# Altium schematic symbol library spacemonochrome-WR_TBL.SchLib: 1696 symbols (part 1 of 28)
Pins are listed as number, name and electrical type; pins without a type are passive.

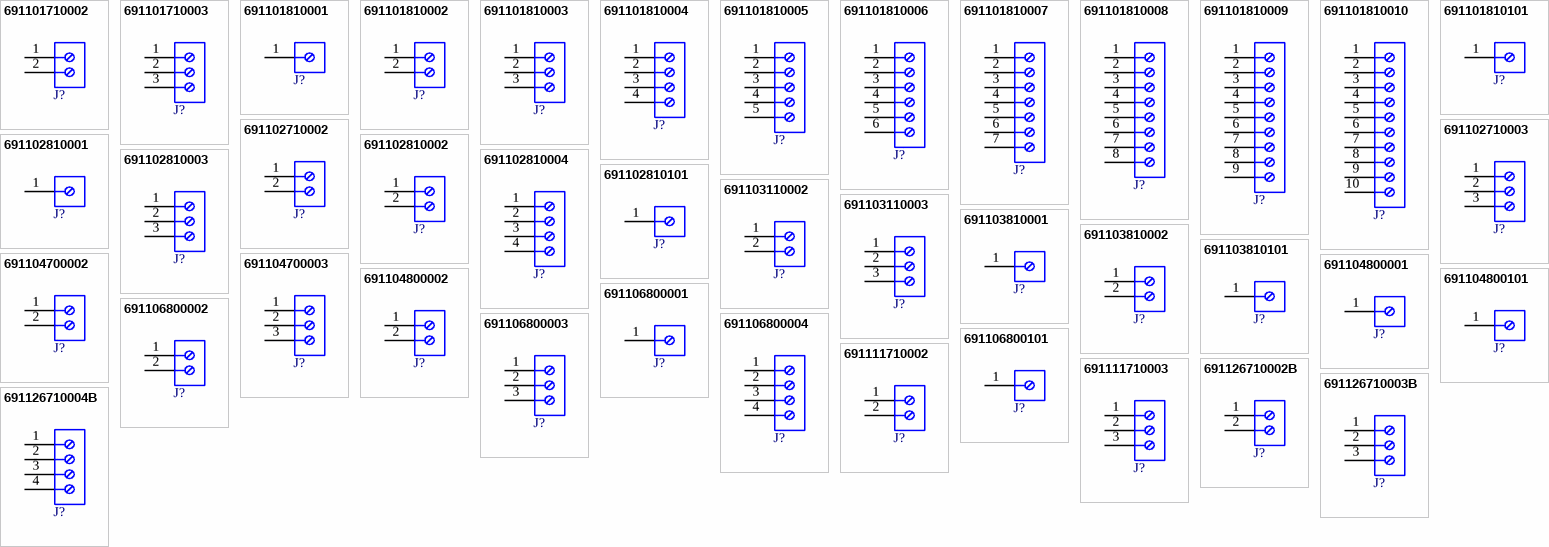
[diagram p0: symbols 691101710002 to 691126710004B]

## 691101710002
designator J?  (value not drawn)
WR-TBL Series 101 Horizontal Entry Modular, THT, pitch 5mm, 2p; Manufacturer: Wurth Elektronik; Modularity: Yes; Rated Current: 16A; Working Voltage: 250V; ComponentLink1Description: Website Link; ComponentLink1URL: https://www.we-online.com/redexpert/article/691101710002?ad; ComponentLink2Description: Datasheet Link; ComponentLink2URL: https://www.we-online.com/redexpert/spec/691101710002?ad; Manufacturer Part Number: 691101710002; Category: Terminal Blocks; Match Code: WR-TBL; Mount: Through Hole; Operating Temperature Max: 105°C; Operating Temperature Min: -40°C; Packaging: Box; Application: Pressure Clamp; Number of Pins: 2; Number of Rows: 1; Orientation: Horizontal; Pitch: 5mm
footprint 691101710002
pins: 1, 2

## 691101710003
designator J?  (value not drawn)
WR-TBL Series 101 Horizontal Entry Modular, THT, pitch 5mm, 3p; Manufacturer: Wurth Elektronik; Modularity: Yes; Rated Current: 16A; Working Voltage: 250V; ComponentLink1Description: Website Link; ComponentLink1URL: https://www.we-online.com/redexpert/article/691101710003?ad; ComponentLink2Description: Datasheet Link; ComponentLink2URL: https://www.we-online.com/redexpert/spec/691101710003?ad; Manufacturer Part Number: 691101710003; Category: Terminal Blocks; Match Code: WR-TBL; Mount: Through Hole; Operating Temperature Max: 105°C; Operating Temperature Min: -40°C; Packaging: Box; Application: Pressure Clamp; Number of Pins: 3; Number of Rows: 1; Orientation: Horizontal; Pitch: 5mm
footprint 691101710003
pins: 1, 2, 3

## 691101810001
designator J?  (value not drawn)
WR-TBL Series 1018 Modular Horizontal Cable Entry, THT, pitch 10mm, 1p; Manufacturer: Wurth Elektronik; Modularity: Yes; Rated Current: 16A; Working Voltage: 250V; ComponentLink1Description: Website Link; ComponentLink1URL: https://www.we-online.com/redexpert/article/691101810001?ad; ComponentLink2Description: Datasheet Link; ComponentLink2URL: https://www.we-online.com/redexpert/spec/691101810001?ad; Manufacturer Part Number: 691101810001; Category: Terminal Blocks; Match Code: WR-TBL; Mount: Through Hole; Operating Temperature Max: 105°C; Operating Temperature Min: -40°C; Packaging: Carton; Application: Wire Protector; Number of Pins: 1; Number of Rows: 1; Orientation: Horizontal Cable Entry; Pitch: 10mm
footprint 691101810001
pins: 1

## 691101810002
designator J?  (value not drawn)
WR-TBL Series 1018 Modular Horizontal Cable Entry, THT, pitch 10mm, 2p; Manufacturer: Wurth Elektronik; Modularity: Yes; Rated Current: 16A; Working Voltage: 250V; ComponentLink1Description: Website Link; ComponentLink1URL: https://www.we-online.com/redexpert/article/691101810002?ad; ComponentLink2Description: Datasheet Link; ComponentLink2URL: https://www.we-online.com/redexpert/spec/691101810002?ad; Manufacturer Part Number: 691101810002; Category: Terminal Blocks; Match Code: WR-TBL; Mount: Through Hole; Operating Temperature Max: 105°C; Operating Temperature Min: -40°C; Packaging: Carton; Application: Wire Protector; Number of Pins: 2; Number of Rows: 1; Orientation: Horizontal Cable Entry; Pitch: 10mm
footprint 691101810002
pins: 1, 2

## 691101810003
designator J?  (value not drawn)
WR-TBL Series 1018 Modular Horizontal Cable Entry, THT, pitch 10mm, 3p; Manufacturer: Wurth Elektronik; Modularity: Yes; Rated Current: 16A; Working Voltage: 250V; ComponentLink1Description: Website Link; ComponentLink1URL: https://www.we-online.com/redexpert/article/691101810003?ad; ComponentLink2Description: Datasheet Link; ComponentLink2URL: https://www.we-online.com/redexpert/spec/691101810003?ad; Manufacturer Part Number: 691101810003; Category: Terminal Blocks; Match Code: WR-TBL; Mount: Through Hole; Operating Temperature Max: 105°C; Operating Temperature Min: -40°C; Packaging: Carton; Application: Wire Protector; Number of Pins: 3; Number of Rows: 1; Orientation: Horizontal Cable Entry; Pitch: 10mm
footprint 691101810003
pins: 1, 2, 3

## 691101810004
designator J?  (value not drawn)
WR-TBL Series 1018 Modular Horizontal Cable Entry, THT, pitch 10mm, 4p; Manufacturer: Wurth Elektronik; Modularity: Yes; Rated Current: 16A; Working Voltage: 250V; ComponentLink1Description: Website Link; ComponentLink1URL: https://www.we-online.com/redexpert/article/691101810004?ad; ComponentLink2Description: Datasheet Link; ComponentLink2URL: https://www.we-online.com/redexpert/spec/691101810004?ad; Manufacturer Part Number: 691101810004; Category: Terminal Blocks; Match Code: WR-TBL; Mount: Through Hole; Operating Temperature Max: 105°C; Operating Temperature Min: -40°C; Packaging: Carton; Application: Wire Protector; Number of Pins: 4; Number of Rows: 1; Orientation: Horizontal Cable Entry; Pitch: 10mm
footprint 691101810004
pins: 1, 2, 3, 4

## 691101810005
designator J?  (value not drawn)
WR-TBL Series 1018 Modular Horizontal Cable Entry, THT, pitch 10mm, 5p; Manufacturer: Wurth Elektronik; Modularity: Yes; Rated Current: 16A; Working Voltage: 250V; ComponentLink1Description: Website Link; ComponentLink1URL: https://www.we-online.com/redexpert/article/691101810005?ad; ComponentLink2Description: Datasheet Link; ComponentLink2URL: https://www.we-online.com/redexpert/spec/691101810005?ad; Manufacturer Part Number: 691101810005; Category: Terminal Blocks; Match Code: WR-TBL; Mount: Through Hole; Operating Temperature Max: 105°C; Operating Temperature Min: -40°C; Packaging: Carton; Application: Wire Protector; Number of Pins: 5; Number of Rows: 1; Orientation: Horizontal Cable Entry; Pitch: 10mm
footprint 691101810005
pins: 1, 2, 3, 4, 5

## 691101810006
designator J?  (value not drawn)
WR-TBL Series 1018 Modular Horizontal Cable Entry, THT, pitch 10mm, 6p; Manufacturer: Wurth Elektronik; Modularity: Yes; Rated Current: 16A; Working Voltage: 250V; ComponentLink1Description: Website Link; ComponentLink1URL: https://www.we-online.com/redexpert/article/691101810006?ad; ComponentLink2Description: Datasheet Link; ComponentLink2URL: https://www.we-online.com/redexpert/spec/691101810006?ad; Manufacturer Part Number: 691101810006; Category: Terminal Blocks; Match Code: WR-TBL; Mount: Through Hole; Operating Temperature Max: 105°C; Operating Temperature Min: -40°C; Packaging: Carton; Application: Wire Protector; Number of Pins: 6; Number of Rows: 1; Orientation: Horizontal Cable Entry; Pitch: 10mm
footprint 691101810006
pins: 1, 2, 3, 4, 5, 6

## 691101810007
designator J?  (value not drawn)
WR-TBL Series 1018 Modular Horizontal Cable Entry, THT, pitch 10mm, 7p; Manufacturer: Wurth Elektronik; Modularity: Yes; Rated Current: 16A; Working Voltage: 250V; ComponentLink1Description: Website Link; ComponentLink1URL: https://www.we-online.com/redexpert/article/691101810007?ad; ComponentLink2Description: Datasheet Link; ComponentLink2URL: https://www.we-online.com/redexpert/spec/691101810007?ad; Manufacturer Part Number: 691101810007; Category: Terminal Blocks; Match Code: WR-TBL; Mount: Through Hole; Operating Temperature Max: 105°C; Operating Temperature Min: -40°C; Packaging: Carton; Application: Wire Protector; Number of Pins: 7; Number of Rows: 1; Orientation: Horizontal Cable Entry; Pitch: 10mm
footprint 691101810007
pins: 1, 2, 3, 4, 5, 6, 7

## 691101810008
designator J?  (value not drawn)
WR-TBL Series 1018 Modular Horizontal Cable Entry, THT, pitch 10mm, 8p; Manufacturer: Wurth Elektronik; Modularity: Yes; Rated Current: 16A; Working Voltage: 250V; ComponentLink1Description: Website Link; ComponentLink1URL: https://www.we-online.com/redexpert/article/691101810008?ad; ComponentLink2Description: Datasheet Link; ComponentLink2URL: https://www.we-online.com/redexpert/spec/691101810008?ad; Manufacturer Part Number: 691101810008; Category: Terminal Blocks; Match Code: WR-TBL; Mount: Through Hole; Operating Temperature Max: 105°C; Operating Temperature Min: -40°C; Packaging: Carton; Application: Wire Protector; Number of Pins: 8; Number of Rows: 1; Orientation: Horizontal Cable Entry; Pitch: 10mm
footprint 691101810008
pins: 1, 2, 3, 4, 5, 6, 7, 8

## 691101810009
designator J?  (value not drawn)
WR-TBL Series 1018 Modular Horizontal Cable Entry, THT, pitch 10mm, 9p; Manufacturer: Wurth Elektronik; Modularity: Yes; Rated Current: 16A; Working Voltage: 250V; ComponentLink1Description: Website Link; ComponentLink1URL: https://www.we-online.com/redexpert/article/691101810009?ad; ComponentLink2Description: Datasheet Link; ComponentLink2URL: https://www.we-online.com/redexpert/spec/691101810009?ad; Manufacturer Part Number: 691101810009; Category: Terminal Blocks; Match Code: WR-TBL; Mount: Through Hole; Operating Temperature Max: 105°C; Operating Temperature Min: -40°C; Packaging: Carton; Application: Wire Protector; Number of Pins: 9; Number of Rows: 1; Orientation: Horizontal Cable Entry; Pitch: 10mm
footprint 691101810009
pins: 1, 2, 3, 4, 5, 6, 7, 8, 9

## 691101810010
designator J?  (value not drawn)
WR-TBL Series 1018 Modular Horizontal Cable Entry, THT, pitch 10mm, 10p; Manufacturer: Wurth Elektronik; Modularity: Yes; Rated Current: 16A; Working Voltage: 250V; ComponentLink1Description: Website Link; ComponentLink1URL: https://www.we-online.com/redexpert/article/691101810010?ad; ComponentLink2Description: Datasheet Link; ComponentLink2URL: https://www.we-online.com/redexpert/spec/691101810010?ad; Manufacturer Part Number: 691101810010; Category: Terminal Blocks; Match Code: WR-TBL; Mount: Through Hole; Operating Temperature Max: 105°C; Operating Temperature Min: -40°C; Packaging: Carton; Application: Wire Protector; Number of Pins: 10; Number of Rows: 1; Orientation: Horizontal Cable Entry; Pitch: 10mm
footprint 691101810010
pins: 1, 2, 3, 4, 5, 6, 7, 8, 9, 10

## 691101810101
designator J?  (value not drawn)
WR-TBL Series 1018 Modular Horizontal Cable Entry, THT, pitch 10mm, 1p; Manufacturer: Wurth Elektronik; Modularity: Yes; Rated Current: 16A; Working Voltage: 250V; ComponentLink1Description: Website Link; ComponentLink1URL: https://www.we-online.com/redexpert/article/691101810101?ad; ComponentLink2Description: Datasheet Link; ComponentLink2URL: https://www.we-online.com/redexpert/spec/691101810101?ad; Manufacturer Part Number: 691101810101; Category: Terminal Blocks; Match Code: WR-TBL; Mount: Through Hole; Operating Temperature Max: 105°C; Operating Temperature Min: -40°C; Packaging: Carton; Application: Wire Protector; Number of Pins: 1; Number of Rows: 1; Orientation: Horizontal Cable Entry; Pitch: 10mm
footprint 691101810101
pins: 1

## 691102710002
designator J?  (value not drawn)
WR-TBL Series 102 Horizontal Entry Modular, THT, pitch 5mm, 2p; Manufacturer: Wurth Elektronik; Modularity: Yes; Rated Current: 15A; Working Voltage: 250V; ComponentLink1Description: Website Link; ComponentLink1URL: https://www.we-online.com/redexpert/article/691102710002?ad; ComponentLink2Description: Datasheet Link; ComponentLink2URL: https://www.we-online.com/redexpert/spec/691102710002?ad; Manufacturer Part Number: 691102710002; Category: Terminal Blocks; Match Code: WR-TBL; Mount: Through Hole; Operating Temperature Max: 105°C; Operating Temperature Min: -40°C; Packaging: Box; Application: Pressure Clamp; Number of Pins: 2; Number of Rows: 1; Orientation: Horizontal; Pitch: 5mm
footprint 691102710002
pins: 1, 2

## 691102710003
designator J?  (value not drawn)
WR-TBL Series 102 Horizontal Entry Modular, THT, pitch 5mm, 3p; Manufacturer: Wurth Elektronik; Modularity: Yes; Rated Current: 15A; Working Voltage: 250V; ComponentLink1Description: Website Link; ComponentLink1URL: https://www.we-online.com/redexpert/article/691102710003?ad; ComponentLink2Description: Datasheet Link; ComponentLink2URL: https://www.we-online.com/redexpert/spec/691102710003?ad; Manufacturer Part Number: 691102710003; Category: Terminal Blocks; Match Code: WR-TBL; Mount: Through Hole; Operating Temperature Max: 105°C; Operating Temperature Min: -40°C; Packaging: Box; Application: Pressure Clamp; Number of Pins: 3; Number of Rows: 1; Orientation: Horizontal; Pitch: 5mm
footprint 691102710003
pins: 1, 2, 3

## 691102810001
designator J?  (value not drawn)
WR-TBL Series 1028 Modular Horizontal Cable Entry, THT, pitch 10mm, 1p; Manufacturer: Wurth Elektronik; Modularity: Yes; Rated Current: 15A; Working Voltage: 300V; ComponentLink1Description: Website Link; ComponentLink1URL: https://www.we-online.com/redexpert/article/691102810001?ad; ComponentLink2Description: Datasheet Link; ComponentLink2URL: https://www.we-online.com/redexpert/spec/691102810001?ad; Manufacturer Part Number: 691102810001; Category: Terminal Blocks; Match Code: WR-TBL; Mount: Through Hole; Operating Temperature Max: 105°C; Operating Temperature Min: -40°C; Packaging: Carton; Application: Wire Protector; Number of Pins: 1; Number of Rows: 1; Orientation: Horizontal Cable Entry; Pitch: 10mm
footprint 691102810001
pins: 1

## 691102810002
designator J?  (value not drawn)
WR-TBL Series 1028 Modular Horizontal Cable Entry, THT, pitch 10mm, 2p; Manufacturer: Wurth Elektronik; Modularity: Yes; Rated Current: 15A; Working Voltage: 300V; ComponentLink1Description: Website Link; ComponentLink1URL: https://www.we-online.com/redexpert/article/691102810002?ad; ComponentLink2Description: Datasheet Link; ComponentLink2URL: https://www.we-online.com/redexpert/spec/691102810002?ad; Manufacturer Part Number: 691102810002; Category: Terminal Blocks; Match Code: WR-TBL; Mount: Through Hole; Operating Temperature Max: 105°C; Operating Temperature Min: -40°C; Packaging: Carton; Application: Wire Protector; Number of Pins: 2; Number of Rows: 1; Orientation: Horizontal Cable Entry; Pitch: 10mm
footprint 691102810002
pins: 1, 2

## 691102810003
designator J?  (value not drawn)
WR-TBL Series 1028 Modular Horizontal Cable Entry, THT, pitch 10mm, 3p; Manufacturer: Wurth Elektronik; Modularity: Yes; Rated Current: 15A; Working Voltage: 300V; ComponentLink1Description: Website Link; ComponentLink1URL: https://www.we-online.com/redexpert/article/691102810003?ad; ComponentLink2Description: Datasheet Link; ComponentLink2URL: https://www.we-online.com/redexpert/spec/691102810003?ad; Manufacturer Part Number: 691102810003; Category: Terminal Blocks; Match Code: WR-TBL; Mount: Through Hole; Operating Temperature Max: 105°C; Operating Temperature Min: -40°C; Packaging: Carton; Application: Wire Protector; Number of Pins: 3; Number of Rows: 1; Orientation: Horizontal Cable Entry; Pitch: 10mm
footprint 691102810003
pins: 1, 2, 3

## 691102810004
designator J?  (value not drawn)
WR-TBL Series 1028 Modular Horizontal Cable Entry, THT, pitch 10mm, 4p; Manufacturer: Wurth Elektronik; Modularity: Yes; Rated Current: 15A; Working Voltage: 300V; ComponentLink1Description: Website Link; ComponentLink1URL: https://www.we-online.com/redexpert/article/691102810004?ad; ComponentLink2Description: Datasheet Link; ComponentLink2URL: https://www.we-online.com/redexpert/spec/691102810004?ad; Manufacturer Part Number: 691102810004; Category: Terminal Blocks; Match Code: WR-TBL; Mount: Through Hole; Operating Temperature Max: 105°C; Operating Temperature Min: -40°C; Packaging: Carton; Application: Wire Protector; Number of Pins: 4; Number of Rows: 1; Orientation: Horizontal Cable Entry; Pitch: 10mm
footprint 691102810004
pins: 1, 2, 3, 4

## 691102810101
designator J?  (value not drawn)
WR-TBL Series 1028 Modular Horizontal Cable Entry, THT, pitch 10mm, 1p; Manufacturer: Wurth Elektronik; Modularity: Yes; Rated Current: 15A; Working Voltage: 300V; ComponentLink1Description: Website Link; ComponentLink1URL: https://www.we-online.com/redexpert/article/691102810101?ad; ComponentLink2Description: Datasheet Link; ComponentLink2URL: https://www.we-online.com/redexpert/spec/691102810101?ad; Manufacturer Part Number: 691102810101; Category: Terminal Blocks; Match Code: WR-TBL; Mount: Through Hole; Operating Temperature Max: 105°C; Operating Temperature Min: -40°C; Packaging: Carton; Application: Wire Protector; Number of Pins: 1; Number of Rows: 1; Orientation: Horizontal Cable Entry; Pitch: 10mm
footprint 691102810101
pins: 1

## 691103110002
designator J?  (value not drawn)
WR-TBL Series 1031 Horizontal Entry Modular, THT, pitch 3.5mm, 2p; Manufacturer: Wurth Elektronik; Modularity: Yes; Rated Current: 10A; Working Voltage: 125V; ComponentLink1Description: Website Link; ComponentLink1URL: https://www.we-online.com/redexpert/article/691103110002?ad; ComponentLink2Description: Datasheet Link; ComponentLink2URL: https://www.we-online.com/redexpert/spec/691103110002?ad; Manufacturer Part Number: 691103110002; Category: Terminal Blocks; Match Code: WR-TBL; Mount: Through Hole; Operating Temperature Max: 105°C; Operating Temperature Min: -40°C; Packaging: Box; Application: Pressure Clamp; Number of Pins: 2; Number of Rows: 1; Orientation: Horizontal; Pitch: 3.5mm
footprint 691103110002
pins: 1, 2

## 691103110003
designator J?  (value not drawn)
WR-TBL Series 1031 Horizontal Entry Modular, THT, pitch 3.5mm, 3p; Manufacturer: Wurth Elektronik; Modularity: Yes; Rated Current: 10A; Working Voltage: 125V; ComponentLink1Description: Website Link; ComponentLink1URL: https://www.we-online.com/redexpert/article/691103110003?ad; ComponentLink2Description: Datasheet Link; ComponentLink2URL: https://www.we-online.com/redexpert/spec/691103110003?ad; Manufacturer Part Number: 691103110003; Category: Terminal Blocks; Match Code: WR-TBL; Mount: Through Hole; Operating Temperature Max: 105°C; Operating Temperature Min: -40°C; Packaging: Box; Application: Pressure Clamp; Number of Pins: 3; Number of Rows: 1; Orientation: Horizontal; Pitch: 3.5mm
footprint 691103110003
pins: 1, 2, 3

## 691103810001
designator J?  (value not drawn)
WR-TBL Series 1038 Horizontal Entry, THT, pitch 10mm, 1p; Manufacturer: Wurth Elektronik; Modularity: Yes; Rated Current: 14A; Working Voltage: 300V; ComponentLink1Description: Website Link; ComponentLink1URL: https://www.we-online.com/redexpert/article/691103810001?ad; ComponentLink2Description: Datasheet Link; ComponentLink2URL: https://www.we-online.com/redexpert/spec/691103810001?ad; Manufacturer Part Number: 691103810001; Category: Terminal Blocks; Match Code: WR-TBL; Mount: Through Hole; Operating Temperature Max: 120°C; Operating Temperature Min: -30°C; Packaging: Box; Application: Pressure Clamp; Number of Pins: 1; Number of Rows: 1; Orientation: Horizontal; Pitch: 10mm
footprint 691103810001
pins: 1

## 691103810002
designator J?  (value not drawn)
WR-TBL Series 1038 Horizontal Entry, THT, pitch 10mm, 2p; Manufacturer: Wurth Elektronik; Modularity: Yes; Rated Current: 14A; Working Voltage: 300V; ComponentLink1Description: Website Link; ComponentLink1URL: https://www.we-online.com/redexpert/article/691103810002?ad; ComponentLink2Description: Datasheet Link; ComponentLink2URL: https://www.we-online.com/redexpert/spec/691103810002?ad; Manufacturer Part Number: 691103810002; Category: Terminal Blocks; Match Code: WR-TBL; Mount: Through Hole; Operating Temperature Max: 120°C; Operating Temperature Min: -30°C; Packaging: Box; Application: Pressure Clamp; Number of Pins: 2; Number of Rows: 1; Orientation: Horizontal; Pitch: 10mm
footprint 691103810002
pins: 1, 2

## 691103810101
designator J?  (value not drawn)
WR-TBL Series 1038 Horizontal Entry, THT, pitch 10mm, 1p; Manufacturer: Wurth Elektronik; Modularity: Yes; Rated Current: 14A; Working Voltage: 300V; ComponentLink1Description: Website Link; ComponentLink1URL: https://www.we-online.com/redexpert/article/691103810101?ad; ComponentLink2Description: Datasheet Link; ComponentLink2URL: https://www.we-online.com/redexpert/spec/691103810101?ad; Manufacturer Part Number: 691103810101; Category: Terminal Blocks; Match Code: WR-TBL; Mount: Through Hole; Operating Temperature Max: 120°C; Operating Temperature Min: -30°C; Packaging: Box; Application: Pressure Clamp; Number of Pins: 1; Number of Rows: 1; Orientation: Horizontal; Pitch: 10mm
footprint 691103810101
pins: 1

## 691104700002
designator J?  (value not drawn)
WR-TBL Series 1047 Vertical Entry Modular, THT, pitch 5mm, 2p; Manufacturer: Wurth Elektronik; Modularity: Yes; Rated Current: 16A; Working Voltage: 250V; ComponentLink1Description: Website Link; ComponentLink1URL: https://www.we-online.com/redexpert/article/691104700002?ad; ComponentLink2Description: Datasheet Link; ComponentLink2URL: https://www.we-online.com/redexpert/spec/691104700002?ad; Manufacturer Part Number: 691104700002; Category: Terminal Blocks; Match Code: WR-TBL; Mount: Through Hole; Operating Temperature Max: 105°C; Operating Temperature Min: -40°C; Packaging: Box; Application: Pressure Clamp; Number of Pins: 2; Number of Rows: 1; Orientation: Vertical; Pitch: 5mm
footprint 691104700002
pins: 1, 2

## 691104700003
designator J?  (value not drawn)
WR-TBL Series 1047 Vertical Entry Modular, THT, pitch 5mm, 3p; Manufacturer: Wurth Elektronik; Modularity: Yes; Rated Current: 16A; Working Voltage: 250V; ComponentLink1Description: Website Link; ComponentLink1URL: https://www.we-online.com/redexpert/article/691104700003?ad; ComponentLink2Description: Datasheet Link; ComponentLink2URL: https://www.we-online.com/redexpert/spec/691104700003?ad; Manufacturer Part Number: 691104700003; Category: Terminal Blocks; Match Code: WR-TBL; Mount: Through Hole; Operating Temperature Max: 105°C; Operating Temperature Min: -40°C; Packaging: Box; Application: Pressure Clamp; Number of Pins: 3; Number of Rows: 1; Orientation: Vertical; Pitch: 5mm
footprint 691104700003
pins: 1, 2, 3

## 691104800001
designator J?  (value not drawn)
WR-TBL Series 1048 Vertical Entry Glow Wire, THT, pitch 10mm, 1p; Manufacturer: Wurth Elektronik; Modularity: Yes; Rated Current: 14A; Working Voltage: 300V; ComponentLink1Description: Website Link; ComponentLink1URL: https://www.we-online.com/redexpert/article/691104800001?ad; ComponentLink2Description: Datasheet Link; ComponentLink2URL: https://www.we-online.com/redexpert/spec/691104800001?ad; Manufacturer Part Number: 691104800001; Category: Terminal Blocks; Match Code: WR-TBL; Mount: Through Hole; Operating Temperature Max: 120°C; Operating Temperature Min: -30°C; Packaging: Box; Application: Pressure Clamp; Number of Pins: 1; Number of Rows: 1; Orientation: Vertical; Pitch: 10mm
footprint 691104800001
pins: 1

## 691104800002
designator J?  (value not drawn)
WR-TBL Series 1048 Vertical Entry Glow Wire, THT, pitch 10mm, 2p; Manufacturer: Wurth Elektronik; Modularity: Yes; Rated Current: 14A; Working Voltage: 300V; ComponentLink1Description: Website Link; ComponentLink1URL: https://www.we-online.com/redexpert/article/691104800002?ad; ComponentLink2Description: Datasheet Link; ComponentLink2URL: https://www.we-online.com/redexpert/spec/691104800002?ad; Manufacturer Part Number: 691104800002; Category: Terminal Blocks; Match Code: WR-TBL; Mount: Through Hole; Operating Temperature Max: 120°C; Operating Temperature Min: -30°C; Packaging: Box; Application: Pressure Clamp; Number of Pins: 2; Number of Rows: 1; Orientation: Vertical; Pitch: 10mm
footprint 691104800002
pins: 1, 2

## 691104800101
designator J?  (value not drawn)
WR-TBL Series 1048 Vertical Entry Glow Wire, THT, pitch 10mm, 1p; Manufacturer: Wurth Elektronik; Modularity: Yes; Rated Current: 14A; Working Voltage: 300V; ComponentLink1Description: Website Link; ComponentLink1URL: https://www.we-online.com/redexpert/article/691104800101?ad; ComponentLink2Description: Datasheet Link; ComponentLink2URL: https://www.we-online.com/redexpert/spec/691104800101?ad; Manufacturer Part Number: 691104800101; Category: Terminal Blocks; Match Code: WR-TBL; Mount: Through Hole; Operating Temperature Max: 120°C; Operating Temperature Min: -30°C; Packaging: Box; Application: Pressure Clamp; Number of Pins: 1; Number of Rows: 1; Orientation: Vertical; Pitch: 10mm
footprint 691104800101
pins: 1

## 691106800001
designator J?  (value not drawn)
WR-TBL Series 1068 Modular Vertical Cable Entry, THT, pitch 10mm, 1p; Manufacturer: Wurth Elektronik; Modularity: Yes; Rated Current: 16A; Working Voltage: 250V; ComponentLink1Description: Website Link; ComponentLink1URL: https://www.we-online.com/redexpert/article/691106800001?ad; ComponentLink2Description: Datasheet Link; ComponentLink2URL: https://www.we-online.com/redexpert/spec/691106800001?ad; Manufacturer Part Number: 691106800001; Category: Terminal Blocks; Match Code: WR-TBL; Mount: Through Hole; Operating Temperature Max: 105°C; Operating Temperature Min: -40°C; Packaging: Carton; Application: Wire Protector; Number of Pins: 1; Number of Rows: 1; Orientation: Vertical Cable Entry; Pitch: 10mm
footprint 691106800001
pins: 1

## 691106800002
designator J?  (value not drawn)
WR-TBL Series 1068 Modular Vertical Cable Entry, THT, pitch 10mm, 2p; Manufacturer: Wurth Elektronik; Modularity: Yes; Rated Current: 16A; Working Voltage: 250V; ComponentLink1Description: Website Link; ComponentLink1URL: https://www.we-online.com/redexpert/article/691106800002?ad; ComponentLink2Description: Datasheet Link; ComponentLink2URL: https://www.we-online.com/redexpert/spec/691106800002?ad; Manufacturer Part Number: 691106800002; Category: Terminal Blocks; Match Code: WR-TBL; Mount: Through Hole; Operating Temperature Max: 105°C; Operating Temperature Min: -40°C; Packaging: Carton; Application: Wire Protector; Number of Pins: 2; Number of Rows: 1; Orientation: Vertical Cable Entry; Pitch: 10mm
footprint 691106800002
pins: 1, 2

## 691106800003
designator J?  (value not drawn)
WR-TBL Series 1068 Modular Vertical Cable Entry, THT, pitch 10mm, 3p; Manufacturer: Wurth Elektronik; Modularity: Yes; Rated Current: 16A; Working Voltage: 250V; ComponentLink1Description: Website Link; ComponentLink1URL: https://www.we-online.com/redexpert/article/691106800003?ad; ComponentLink2Description: Datasheet Link; ComponentLink2URL: https://www.we-online.com/redexpert/spec/691106800003?ad; Manufacturer Part Number: 691106800003; Category: Terminal Blocks; Match Code: WR-TBL; Mount: Through Hole; Operating Temperature Max: 105°C; Operating Temperature Min: -40°C; Packaging: Carton; Application: Wire Protector; Number of Pins: 3; Number of Rows: 1; Orientation: Vertical Cable Entry; Pitch: 10mm
footprint 691106800003
pins: 1, 2, 3

## 691106800004
designator J?  (value not drawn)
WR-TBL Series 1068 Modular Vertical Cable Entry, THT, pitch 10mm, 4p; Manufacturer: Wurth Elektronik; Modularity: Yes; Rated Current: 16A; Working Voltage: 250V; ComponentLink1Description: Website Link; ComponentLink1URL: https://www.we-online.com/redexpert/article/691106800004?ad; ComponentLink2Description: Datasheet Link; ComponentLink2URL: https://www.we-online.com/redexpert/spec/691106800004?ad; Manufacturer Part Number: 691106800004; Category: Terminal Blocks; Match Code: WR-TBL; Mount: Through Hole; Operating Temperature Max: 105°C; Operating Temperature Min: -40°C; Packaging: Carton; Application: Wire Protector; Number of Pins: 4; Number of Rows: 1; Orientation: Vertical Cable Entry; Pitch: 10mm
footprint 691106800004
pins: 1, 2, 3, 4

## 691106800101
designator J?  (value not drawn)
WR-TBL Series 1068 Modular Vertical Cable Entry, THT, pitch 10mm, 1p; Manufacturer: Wurth Elektronik; Modularity: Yes; Rated Current: 16A; Working Voltage: 250V; ComponentLink1Description: Website Link; ComponentLink1URL: https://www.we-online.com/redexpert/article/691106800101?ad; ComponentLink2Description: Datasheet Link; ComponentLink2URL: https://www.we-online.com/redexpert/spec/691106800101?ad; Manufacturer Part Number: 691106800101; Category: Terminal Blocks; Match Code: WR-TBL; Mount: Through Hole; Operating Temperature Max: 105°C; Operating Temperature Min: -40°C; Packaging: Carton; Application: Wire Protector; Number of Pins: 1; Number of Rows: 1; Orientation: Vertical Cable Entry; Pitch: 10mm
footprint 691106800101
pins: 1

## 691111710002
designator J?  (value not drawn)
WR-TBL Series 111 Horizontal Entry Modular, THT, pitch 5mm, 2p; Manufacturer: Wurth Elektronik; Modularity: Yes; Rated Current: 15A; Working Voltage: 250V; ComponentLink1Description: Website Link; ComponentLink1URL: https://www.we-online.com/redexpert/article/691111710002?ad; ComponentLink2Description: Datasheet Link; ComponentLink2URL: https://www.we-online.com/redexpert/spec/691111710002?ad; Manufacturer Part Number: 691111710002; Category: Terminal Blocks; Match Code: WR-TBL; Mount: Through Hole; Operating Temperature Max: 105°C; Operating Temperature Min: -40°C; Packaging: Box; Application: Pressure Clamp; Number of Pins: 2; Number of Rows: 1; Orientation: Horizontal; Pitch: 5mm
footprint 691111710002
pins: 1, 2

## 691111710003
designator J?  (value not drawn)
WR-TBL Series 111 Horizontal Entry Modular, THT, pitch 5mm, 3p; Manufacturer: Wurth Elektronik; Modularity: Yes; Rated Current: 15A; Working Voltage: 250V; ComponentLink1Description: Website Link; ComponentLink1URL: https://www.we-online.com/redexpert/article/691111710003?ad; ComponentLink2Description: Datasheet Link; ComponentLink2URL: https://www.we-online.com/redexpert/spec/691111710003?ad; Manufacturer Part Number: 691111710003; Category: Terminal Blocks; Match Code: WR-TBL; Mount: Through Hole; Operating Temperature Max: 105°C; Operating Temperature Min: -40°C; Packaging: Box; Application: Pressure Clamp; Number of Pins: 3; Number of Rows: 1; Orientation: Horizontal; Pitch: 5mm
footprint 691111710003
pins: 1, 2, 3

## 691126710002B
designator J?  (value not drawn)
WR-TBL Series 126B Horizontal Entry, THT, pitch 5mm, 2p; Manufacturer: Wurth Elektronik; Modularity: Yes; Rated Current: 20A; Working Voltage: 300V; ComponentLink1Description: Website Link; ComponentLink1URL: https://www.we-online.com/redexpert/article/691126710002B?ad; ComponentLink2Description: Datasheet Link; ComponentLink2URL: https://www.we-online.com/redexpert/spec/691126710002B?ad; Manufacturer Part Number: 691126710002B; Category: Terminal Blocks; Match Code: WR-TBL; Mount: Through Hole; Operating Temperature Max: 105°C; Operating Temperature Min: -40°C; Packaging: Box; Application: Pressure Clamp; Number of Pins: 2; Number of Rows: 1; Orientation: Horizontal; Pitch: 5mm
footprint 691126710002B
pins: 1, 2

## 691126710003B
designator J?  (value not drawn)
WR-TBL Series 126B Horizontal Entry, THT, pitch 5mm, 3p; Manufacturer: Wurth Elektronik; Modularity: Yes; Rated Current: 20A; Working Voltage: 300V; ComponentLink1Description: Website Link; ComponentLink1URL: https://www.we-online.com/redexpert/article/691126710003B?ad; ComponentLink2Description: Datasheet Link; ComponentLink2URL: https://www.we-online.com/redexpert/spec/691126710003B?ad; Manufacturer Part Number: 691126710003B; Category: Terminal Blocks; Match Code: WR-TBL; Mount: Through Hole; Operating Temperature Max: 105°C; Operating Temperature Min: -40°C; Packaging: Box; Application: Pressure Clamp; Number of Pins: 3; Number of Rows: 1; Orientation: Horizontal; Pitch: 5mm
footprint 691126710003B
pins: 1, 2, 3

## 691126710004B
designator J?  (value not drawn)
WR-TBL Series 126B Horizontal Entry, THT, pitch 5mm, 4p; Manufacturer: Wurth Elektronik; Modularity: Yes; Rated Current: 20A; Working Voltage: 300V; ComponentLink1Description: Website Link; ComponentLink1URL: https://www.we-online.com/redexpert/article/691126710004B?ad; ComponentLink2Description: Datasheet Link; ComponentLink2URL: https://www.we-online.com/redexpert/spec/691126710004B?ad; Manufacturer Part Number: 691126710004B; Category: Terminal Blocks; Match Code: WR-TBL; Mount: Through Hole; Operating Temperature Max: 105°C; Operating Temperature Min: -40°C; Packaging: Box; Application: Pressure Clamp; Number of Pins: 4; Number of Rows: 1; Orientation: Horizontal; Pitch: 5mm
footprint 691126710004B
pins: 1, 2, 3, 4

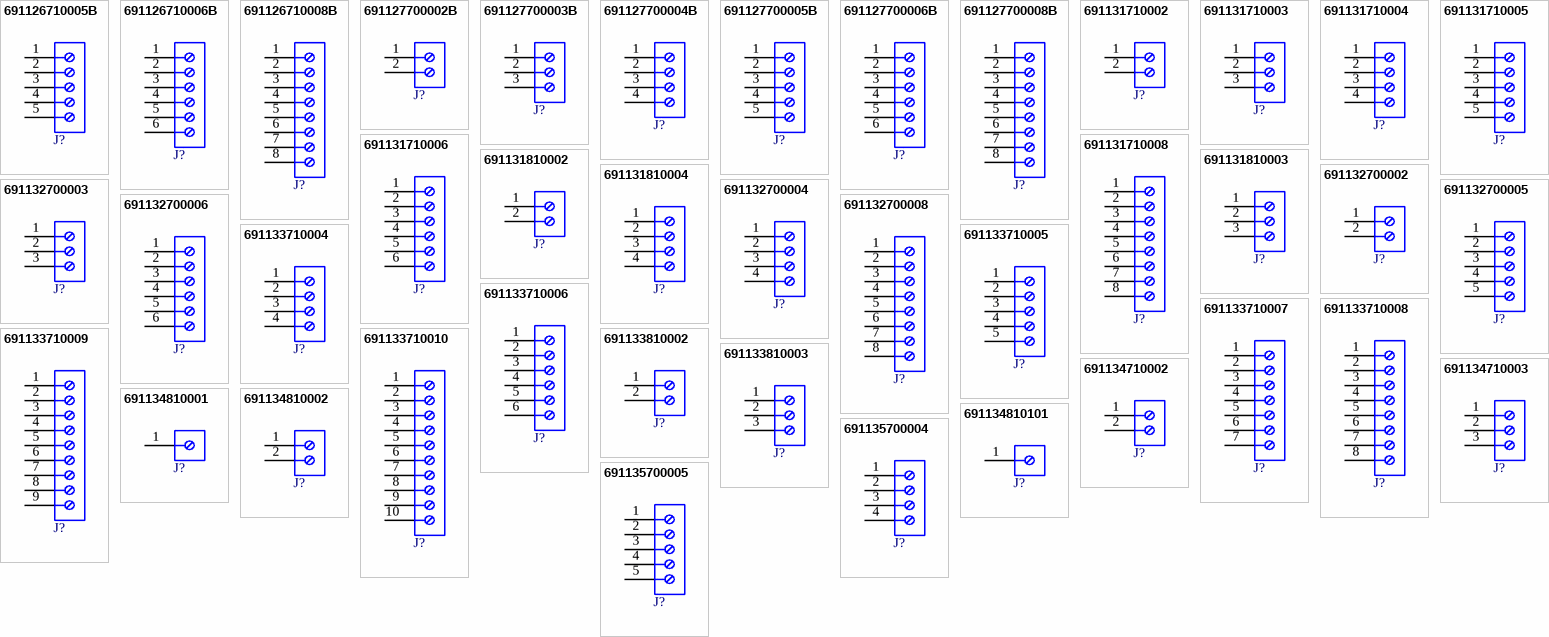
[diagram p1: symbols 691126710005B to 691135700005]

## 691126710005B
designator J?  (value not drawn)
WR-TBL Series 126B Horizontal Entry, THT, pitch 5mm, 5p; Manufacturer: Wurth Elektronik; Modularity: Yes; Rated Current: 20A; Working Voltage: 300V; ComponentLink1Description: Website Link; ComponentLink1URL: https://www.we-online.com/redexpert/article/691126710005B?ad; ComponentLink2Description: Datasheet Link; ComponentLink2URL: https://www.we-online.com/redexpert/spec/691126710005B?ad; Manufacturer Part Number: 691126710005B; Category: Terminal Blocks; Match Code: WR-TBL; Mount: Through Hole; Operating Temperature Max: 105°C; Operating Temperature Min: -40°C; Packaging: Box; Application: Pressure Clamp; Number of Pins: 5; Number of Rows: 1; Orientation: Horizontal; Pitch: 5mm
footprint 691126710005B
pins: 1, 2, 3, 4, 5

## 691126710006B
designator J?  (value not drawn)
WR-TBL Series 126B Horizontal Entry, THT, pitch 5mm, 6p; Manufacturer: Wurth Elektronik; Modularity: Yes; Rated Current: 20A; Working Voltage: 300V; ComponentLink1Description: Website Link; ComponentLink1URL: https://www.we-online.com/redexpert/article/691126710006B?ad; ComponentLink2Description: Datasheet Link; ComponentLink2URL: https://www.we-online.com/redexpert/spec/691126710006B?ad; Manufacturer Part Number: 691126710006B; Category: Terminal Blocks; Match Code: WR-TBL; Mount: Through Hole; Operating Temperature Max: 105°C; Operating Temperature Min: -40°C; Packaging: Box; Application: Pressure Clamp; Number of Pins: 6; Number of Rows: 1; Orientation: Horizontal; Pitch: 5mm
footprint 691126710006B
pins: 1, 2, 3, 4, 5, 6

## 691126710008B
designator J?  (value not drawn)
WR-TBL Series 126B Horizontal Entry, THT, pitch 5mm, 8p; Manufacturer: Wurth Elektronik; Modularity: Yes; Rated Current: 20A; Working Voltage: 300V; ComponentLink1Description: Website Link; ComponentLink1URL: https://www.we-online.com/redexpert/article/691126710008B?ad; ComponentLink2Description: Datasheet Link; ComponentLink2URL: https://www.we-online.com/redexpert/spec/691126710008B?ad; Manufacturer Part Number: 691126710008B; Category: Terminal Blocks; Match Code: WR-TBL; Mount: Through Hole; Operating Temperature Max: 105°C; Operating Temperature Min: -40°C; Packaging: Box; Application: Pressure Clamp; Number of Pins: 8; Number of Rows: 1; Orientation: Horizontal; Pitch: 5mm
footprint 691126710008B
pins: 1, 2, 3, 4, 5, 6, 7, 8

## 691127700002B
designator J?  (value not drawn)
WR-TBL Series 127B Vertical Entry, THT, pitch 5mm, 2p; Manufacturer: Wurth Elektronik; Modularity: Yes; Rated Current: 20A; Working Voltage: 300V; ComponentLink1Description: Website Link; ComponentLink1URL: https://www.we-online.com/redexpert/article/691127700002B?ad; ComponentLink2Description: Datasheet Link; ComponentLink2URL: https://www.we-online.com/redexpert/spec/691127700002B?ad; Manufacturer Part Number: 691127700002B; Category: Terminal Blocks; Match Code: WR-TBL; Mount: Through Hole; Operating Temperature Max: 105°C; Operating Temperature Min: -40°C; Packaging: Box; Application: Pressure Clamp; Number of Pins: 2; Number of Rows: 1; Orientation: Vertical; Pitch: 5mm
footprint 691127700002B
pins: 1, 2

## 691127700003B
designator J?  (value not drawn)
WR-TBL Series 127B Vertical Entry, THT, pitch 5mm, 3p; Manufacturer: Wurth Elektronik; Modularity: Yes; Rated Current: 20A; Working Voltage: 300V; ComponentLink1Description: Website Link; ComponentLink1URL: https://www.we-online.com/redexpert/article/691127700003B?ad; ComponentLink2Description: Datasheet Link; ComponentLink2URL: https://www.we-online.com/redexpert/spec/691127700003B?ad; Manufacturer Part Number: 691127700003B; Category: Terminal Blocks; Match Code: WR-TBL; Mount: Through Hole; Operating Temperature Max: 105°C; Operating Temperature Min: -40°C; Packaging: Box; Application: Pressure Clamp; Number of Pins: 3; Number of Rows: 1; Orientation: Vertical; Pitch: 5mm
footprint 691127700003B
pins: 1, 2, 3

## 691127700004B
designator J?  (value not drawn)
WR-TBL Series 127B Vertical Entry, THT, pitch 5mm, 4p; Manufacturer: Wurth Elektronik; Modularity: Yes; Rated Current: 20A; Working Voltage: 300V; ComponentLink1Description: Website Link; ComponentLink1URL: https://www.we-online.com/redexpert/article/691127700004B?ad; ComponentLink2Description: Datasheet Link; ComponentLink2URL: https://www.we-online.com/redexpert/spec/691127700004B?ad; Manufacturer Part Number: 691127700004B; Category: Terminal Blocks; Match Code: WR-TBL; Mount: Through Hole; Operating Temperature Max: 105°C; Operating Temperature Min: -40°C; Packaging: Box; Application: Pressure Clamp; Number of Pins: 4; Number of Rows: 1; Orientation: Vertical; Pitch: 5mm
footprint 691127700004B
pins: 1, 2, 3, 4

## 691127700005B
designator J?  (value not drawn)
WR-TBL Series 127B Vertical Entry, THT, pitch 5mm, 5p; Manufacturer: Wurth Elektronik; Modularity: Yes; Rated Current: 20A; Working Voltage: 300V; ComponentLink1Description: Website Link; ComponentLink1URL: https://www.we-online.com/redexpert/article/691127700005B?ad; ComponentLink2Description: Datasheet Link; ComponentLink2URL: https://www.we-online.com/redexpert/spec/691127700005B?ad; Manufacturer Part Number: 691127700005B; Category: Terminal Blocks; Match Code: WR-TBL; Mount: Through Hole; Operating Temperature Max: 105°C; Operating Temperature Min: -40°C; Packaging: Box; Application: Pressure Clamp; Number of Pins: 5; Number of Rows: 1; Orientation: Vertical; Pitch: 5mm
footprint 691127700005B
pins: 1, 2, 3, 4, 5

## 691127700006B
designator J?  (value not drawn)
WR-TBL Series 127B Vertical Entry, THT, pitch 5mm, 6p; Manufacturer: Wurth Elektronik; Modularity: Yes; Rated Current: 20A; Working Voltage: 300V; ComponentLink1Description: Website Link; ComponentLink1URL: https://www.we-online.com/redexpert/article/691127700006B?ad; ComponentLink2Description: Datasheet Link; ComponentLink2URL: https://www.we-online.com/redexpert/spec/691127700006B?ad; Manufacturer Part Number: 691127700006B; Category: Terminal Blocks; Match Code: WR-TBL; Mount: Through Hole; Operating Temperature Max: 105°C; Operating Temperature Min: -40°C; Packaging: Box; Application: Pressure Clamp; Number of Pins: 6; Number of Rows: 1; Orientation: Vertical; Pitch: 5mm
footprint 691127700006B
pins: 1, 2, 3, 4, 5, 6

## 691127700008B
designator J?  (value not drawn)
WR-TBL Series 127B Vertical Entry, THT, pitch 5mm, 8p; Manufacturer: Wurth Elektronik; Modularity: Yes; Rated Current: 20A; Working Voltage: 300V; ComponentLink1Description: Website Link; ComponentLink1URL: https://www.we-online.com/redexpert/article/691127700008B?ad; ComponentLink2Description: Datasheet Link; ComponentLink2URL: https://www.we-online.com/redexpert/spec/691127700008B?ad; Manufacturer Part Number: 691127700008B; Category: Terminal Blocks; Match Code: WR-TBL; Mount: Through Hole; Operating Temperature Max: 105°C; Operating Temperature Min: -40°C; Packaging: Box; Application: Pressure Clamp; Number of Pins: 8; Number of Rows: 1; Orientation: Vertical; Pitch: 5mm
footprint 691127700008B
pins: 1, 2, 3, 4, 5, 6, 7, 8

## 691131710002
designator J?  (value not drawn)
WR-TBL Series 1317 Horizontal Entry, THT, pitch 5mm, 2p; Manufacturer: Wurth Elektronik; Modularity: No; Rated Current: 16A; Working Voltage: 300V; ComponentLink1Description: Website Link; ComponentLink1URL: https://www.we-online.com/redexpert/article/691131710002?ad; ComponentLink2Description: Datasheet Link; ComponentLink2URL: https://www.we-online.com/redexpert/spec/691131710002?ad; Manufacturer Part Number: 691131710002; Category: Terminal Blocks; Match Code: WR-TBL; Mount: Through Hole; Operating Temperature Max: 120°C; Operating Temperature Min: -30°C; Packaging: Box; Application: Pressure Clamp Divisible; Number of Pins: 2; Number of Rows: 1; Orientation: Horizontal; Pitch: 5mm
footprint 691131710002
pins: 1, 2

## 691131710003
designator J?  (value not drawn)
WR-TBL Series 1317 Horizontal Entry, THT, pitch 5mm, 3p; Manufacturer: Wurth Elektronik; Modularity: No; Rated Current: 16A; Working Voltage: 300V; ComponentLink1Description: Website Link; ComponentLink1URL: https://www.we-online.com/redexpert/article/691131710003?ad; ComponentLink2Description: Datasheet Link; ComponentLink2URL: https://www.we-online.com/redexpert/spec/691131710003?ad; Manufacturer Part Number: 691131710003; Category: Terminal Blocks; Match Code: WR-TBL; Mount: Through Hole; Operating Temperature Max: 120°C; Operating Temperature Min: -30°C; Packaging: Box; Application: Pressure Clamp Divisible; Number of Pins: 3; Number of Rows: 1; Orientation: Horizontal; Pitch: 5mm
footprint 691131710003
pins: 1, 2, 3

## 691131710004
designator J?  (value not drawn)
WR-TBL Series 1317 Horizontal Entry, THT, pitch 5mm, 4p; Manufacturer: Wurth Elektronik; Modularity: No; Rated Current: 16A; Working Voltage: 300V; ComponentLink1Description: Website Link; ComponentLink1URL: https://www.we-online.com/redexpert/article/691131710004?ad; ComponentLink2Description: Datasheet Link; ComponentLink2URL: https://www.we-online.com/redexpert/spec/691131710004?ad; Manufacturer Part Number: 691131710004; Category: Terminal Blocks; Match Code: WR-TBL; Mount: Through Hole; Operating Temperature Max: 120°C; Operating Temperature Min: -30°C; Packaging: Box; Application: Pressure Clamp Divisible; Number of Pins: 4; Number of Rows: 1; Orientation: Horizontal; Pitch: 5mm
footprint 691131710004
pins: 1, 2, 3, 4

## 691131710005
designator J?  (value not drawn)
WR-TBL Series 1317 Horizontal Entry, THT, pitch 5mm, 5p; Manufacturer: Wurth Elektronik; Modularity: No; Rated Current: 16A; Working Voltage: 300V; ComponentLink1Description: Website Link; ComponentLink1URL: https://www.we-online.com/redexpert/article/691131710005?ad; ComponentLink2Description: Datasheet Link; ComponentLink2URL: https://www.we-online.com/redexpert/spec/691131710005?ad; Manufacturer Part Number: 691131710005; Category: Terminal Blocks; Match Code: WR-TBL; Mount: Through Hole; Operating Temperature Max: 120°C; Operating Temperature Min: -30°C; Packaging: Box; Application: Pressure Clamp Divisible; Number of Pins: 5; Number of Rows: 1; Orientation: Horizontal; Pitch: 5mm
footprint 691131710005
pins: 1, 2, 3, 4, 5

## 691131710006
designator J?  (value not drawn)
WR-TBL Series 1317 Horizontal Entry, THT, pitch 5mm, 6p; Manufacturer: Wurth Elektronik; Modularity: No; Rated Current: 16A; Working Voltage: 300V; ComponentLink1Description: Website Link; ComponentLink1URL: https://www.we-online.com/redexpert/article/691131710006?ad; ComponentLink2Description: Datasheet Link; ComponentLink2URL: https://www.we-online.com/redexpert/spec/691131710006?ad; Manufacturer Part Number: 691131710006; Category: Terminal Blocks; Match Code: WR-TBL; Mount: Through Hole; Operating Temperature Max: 120°C; Operating Temperature Min: -30°C; Packaging: Box; Application: Pressure Clamp Divisible; Number of Pins: 6; Number of Rows: 1; Orientation: Horizontal; Pitch: 5mm
footprint 691131710006
pins: 1, 2, 3, 4, 5, 6

## 691131710008
designator J?  (value not drawn)
WR-TBL Series 1317 Horizontal Entry, THT, pitch 5mm, 8p; Manufacturer: Wurth Elektronik; Modularity: No; Rated Current: 16A; Working Voltage: 300V; ComponentLink1Description: Website Link; ComponentLink1URL: https://www.we-online.com/redexpert/article/691131710008?ad; ComponentLink2Description: Datasheet Link; ComponentLink2URL: https://www.we-online.com/redexpert/spec/691131710008?ad; Manufacturer Part Number: 691131710008; Category: Terminal Blocks; Match Code: WR-TBL; Mount: Through Hole; Operating Temperature Max: 120°C; Operating Temperature Min: -30°C; Packaging: Box; Application: Pressure Clamp Divisible; Number of Pins: 8; Number of Rows: 1; Orientation: Horizontal; Pitch: 5mm
footprint 691131710008
pins: 1, 2, 3, 4, 5, 6, 7, 8

## 691131810002
designator J?  (value not drawn)
WR-TBL Series 1318 Horizontal Cable Entry, THT, pitch 10mm, 2p; Manufacturer: Wurth Elektronik; Modularity: No; Rated Current: 16A; Working Voltage: 300V; ComponentLink1Description: Website Link; ComponentLink1URL: https://www.we-online.com/redexpert/article/691131810002?ad; ComponentLink2Description: Datasheet Link; ComponentLink2URL: https://www.we-online.com/redexpert/spec/691131810002?ad; Manufacturer Part Number: 691131810002; Category: Terminal Blocks; Match Code: WR-TBL; Mount: Through Hole; Operating Temperature Max: 120°C; Operating Temperature Min: -30°C; Packaging: Box; Application: Pressure Clamp; Number of Pins: 2; Number of Rows: 1; Orientation: Horizontal; Pitch: 10mm
footprint 691131810002
pins: 1, 2

## 691131810003
designator J?  (value not drawn)
WR-TBL Series 1318 Horizontal Cable Entry, THT, pitch 10mm, 3p; Manufacturer: Wurth Elektronik; Modularity: No; Rated Current: 16A; Working Voltage: 300V; ComponentLink1Description: Website Link; ComponentLink1URL: https://www.we-online.com/redexpert/article/691131810003?ad; ComponentLink2Description: Datasheet Link; ComponentLink2URL: https://www.we-online.com/redexpert/spec/691131810003?ad; Manufacturer Part Number: 691131810003; Category: Terminal Blocks; Match Code: WR-TBL; Mount: Through Hole; Operating Temperature Max: 120°C; Operating Temperature Min: -30°C; Packaging: Box; Application: Pressure Clamp; Number of Pins: 3; Number of Rows: 1; Orientation: Horizontal; Pitch: 10mm
footprint 691131810003
pins: 1, 2, 3

## 691131810004
designator J?  (value not drawn)
WR-TBL Series 1318 Horizontal Cable Entry, THT, pitch 10mm, 4p; Manufacturer: Wurth Elektronik; Modularity: No; Rated Current: 16A; Working Voltage: 300V; ComponentLink1Description: Website Link; ComponentLink1URL: https://www.we-online.com/redexpert/article/691131810004?ad; ComponentLink2Description: Datasheet Link; ComponentLink2URL: https://www.we-online.com/redexpert/spec/691131810004?ad; Manufacturer Part Number: 691131810004; Category: Terminal Blocks; Match Code: WR-TBL; Mount: Through Hole; Operating Temperature Max: 120°C; Operating Temperature Min: -30°C; Packaging: Box; Application: Pressure Clamp; Number of Pins: 4; Number of Rows: 1; Orientation: Horizontal; Pitch: 10mm
footprint 691131810004
pins: 1, 2, 3, 4

## 691132700002
designator J?  (value not drawn)
WR-TBL Series 1327 Vertical Entry, THT, pitch 5mm, 2p; Manufacturer: Wurth Elektronik; Modularity: No; Rated Current: 16A; Working Voltage: 300V; ComponentLink1Description: Website Link; ComponentLink1URL: https://www.we-online.com/redexpert/article/691132700002?ad; ComponentLink2Description: Datasheet Link; ComponentLink2URL: https://www.we-online.com/redexpert/spec/691132700002?ad; Manufacturer Part Number: 691132700002; Category: Terminal Blocks; Match Code: WR-TBL; Mount: Through Hole; Operating Temperature Max: 120°C; Operating Temperature Min: -30°C; Packaging: Box; Application: Pressure Clamp Divisible; Number of Pins: 2; Number of Rows: 1; Orientation: Vertical; Pitch: 5mm
footprint 691132700002
pins: 1, 2

## 691132700003
designator J?  (value not drawn)
WR-TBL Series 1327 Vertical Entry, THT, pitch 5mm, 3p; Manufacturer: Wurth Elektronik; Modularity: No; Rated Current: 16A; Working Voltage: 300V; ComponentLink1Description: Website Link; ComponentLink1URL: https://www.we-online.com/redexpert/article/691132700003?ad; ComponentLink2Description: Datasheet Link; ComponentLink2URL: https://www.we-online.com/redexpert/spec/691132700003?ad; Manufacturer Part Number: 691132700003; Category: Terminal Blocks; Match Code: WR-TBL; Mount: Through Hole; Operating Temperature Max: 120°C; Operating Temperature Min: -30°C; Packaging: Box; Application: Pressure Clamp Divisible; Number of Pins: 3; Number of Rows: 1; Orientation: Vertical; Pitch: 5mm
footprint 691132700003
pins: 1, 2, 3

## 691132700004
designator J?  (value not drawn)
WR-TBL Series 1327 Vertical Entry, THT, pitch 5mm, 4p; Manufacturer: Wurth Elektronik; Modularity: No; Rated Current: 16A; Working Voltage: 300V; ComponentLink1Description: Website Link; ComponentLink1URL: https://www.we-online.com/redexpert/article/691132700004?ad; ComponentLink2Description: Datasheet Link; ComponentLink2URL: https://www.we-online.com/redexpert/spec/691132700004?ad; Manufacturer Part Number: 691132700004; Category: Terminal Blocks; Match Code: WR-TBL; Mount: Through Hole; Operating Temperature Max: 120°C; Operating Temperature Min: -30°C; Packaging: Box; Application: Pressure Clamp Divisible; Number of Pins: 4; Number of Rows: 1; Orientation: Vertical; Pitch: 5mm
footprint 691132700004
pins: 1, 2, 3, 4

## 691132700005
designator J?  (value not drawn)
WR-TBL Series 1327 Vertical Entry, THT, pitch 5mm, 5p; Manufacturer: Wurth Elektronik; Modularity: No; Rated Current: 16A; Working Voltage: 300V; ComponentLink1Description: Website Link; ComponentLink1URL: https://www.we-online.com/redexpert/article/691132700005?ad; ComponentLink2Description: Datasheet Link; ComponentLink2URL: https://www.we-online.com/redexpert/spec/691132700005?ad; Manufacturer Part Number: 691132700005; Category: Terminal Blocks; Match Code: WR-TBL; Mount: Through Hole; Operating Temperature Max: 120°C; Operating Temperature Min: -30°C; Packaging: Box; Application: Pressure Clamp Divisible; Number of Pins: 5; Number of Rows: 1; Orientation: Vertical; Pitch: 5mm
footprint 691132700005
pins: 1, 2, 3, 4, 5

## 691132700006
designator J?  (value not drawn)
WR-TBL Series 1327 Vertical Entry, THT, pitch 5mm, 6p; Manufacturer: Wurth Elektronik; Modularity: No; Rated Current: 16A; Working Voltage: 300V; ComponentLink1Description: Website Link; ComponentLink1URL: https://www.we-online.com/redexpert/article/691132700006?ad; ComponentLink2Description: Datasheet Link; ComponentLink2URL: https://www.we-online.com/redexpert/spec/691132700006?ad; Manufacturer Part Number: 691132700006; Category: Terminal Blocks; Match Code: WR-TBL; Mount: Through Hole; Operating Temperature Max: 120°C; Operating Temperature Min: -30°C; Packaging: Box; Application: Pressure Clamp Divisible; Number of Pins: 6; Number of Rows: 1; Orientation: Vertical; Pitch: 5mm
footprint 691132700006
pins: 1, 2, 3, 4, 5, 6